# Altium integrated library TMS320F28379DPTPT.IntLib: 1 symbol
Pins are listed as number, name and electrical type; pins without a type are passive.

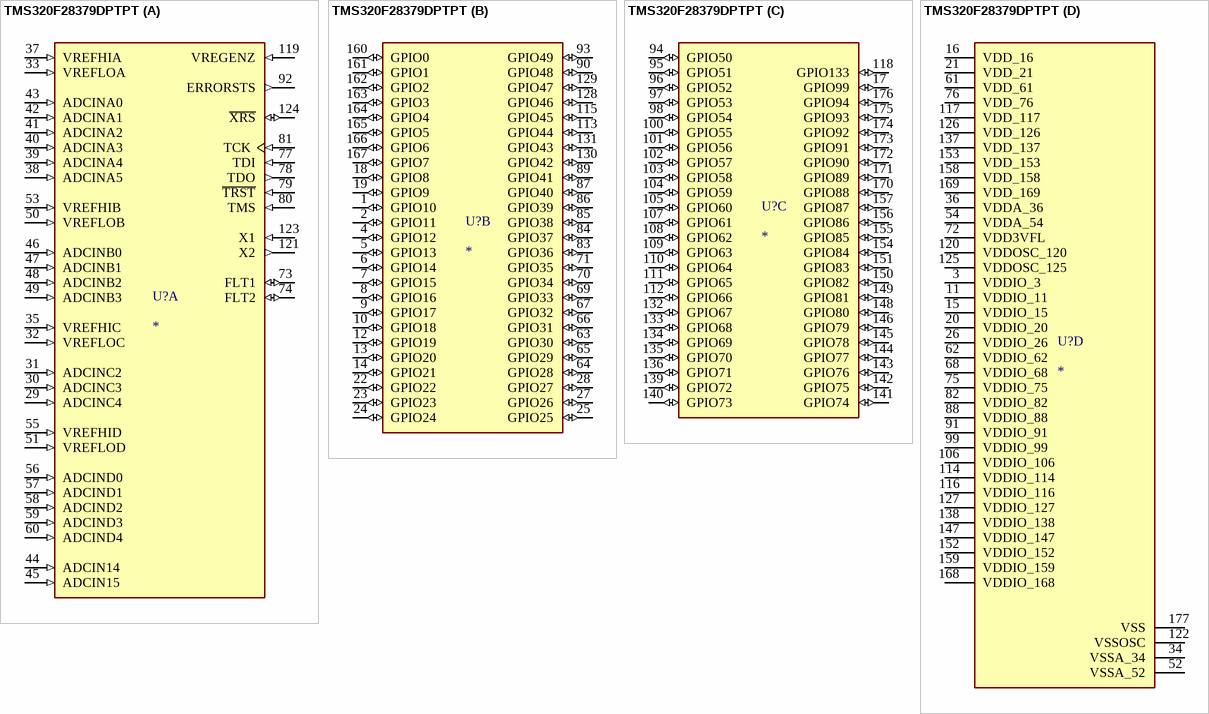
[diagram p0: symbol TMS320F28379DPTPT]

## TMS320F28379DPTPT
designator U?
C2000 32-bit MCU with 800 MIPS, 2xCPU, 2xCLA, FPU, TMU, 1024 KB Flash, CLB, EMIF, 16b ADC 176-HLQFP -40 to 105; MP: TMS320F28379DPTPT; Price: None; Package: None; Availability: Unavailable; Value: *
footprint IC_TMS320F28379DPTPT
part A pins: 29 ADCINC4 (in), 30 ADCINC3 (in), 31 ADCINC2 (in), 32 VREFLOC (in), 33 VREFLOA (in), 35 VREFHIC (in), 37 VREFHIA (in), 38 ADCINA5 (in), 39 ADCINA4 (in), 40 ADCINA3 (in), 41 ADCINA2 (in), 42 ADCINA1 (in), 43 ADCINA0 (in), 44 ADCIN14 (in), 45 ADCIN15 (in), 46 ADCINB0 (in), 47 ADCINB1 (in), 48 ADCINB2 (in), 49 ADCINB3 (in), 50 VREFLOB (in), 51 VREFLOD (in), 53 VREFHIB (in), 55 VREFHID (in), 56 ADCIND0 (in), 57 ADCIND1 (in), 58 ADCIND2 (in), 59 ADCIND3 (in), 60 ADCIND4 (in), 73 FLT1 (io), 74 FLT2 (io), 77 TDI (in), 78 TDO (out), 79 ~{TRST} (in), 80 TMS (in), 81 TCK (in), 92 ERRORSTS (out), 119 VREGENZ (in), 121 X2 (out), 123 X1 (in), 124 ~{XRS} (io)
part B pins: 1 GPIO10 (io), 2 GPIO11 (io), 4 GPIO12 (io), 5 GPIO13 (io), 6 GPIO14 (io), 7 GPIO15 (io), 8 GPIO16 (io), 9 GPIO17 (io), 10 GPIO18 (io), 12 GPIO19 (io), 13 GPIO20 (io), 14 GPIO21 (io), 18 GPIO8 (io), 19 GPIO9 (io), 22 GPIO22 (io), 23 GPIO23 (io), 24 GPIO24 (io), 25 GPIO25 (io), 27 GPIO26 (io), 28 GPIO27 (io), 63 GPIO30 (io), 64 GPIO28 (io), 65 GPIO29 (io), 66 GPIO31 (io), 67 GPIO32 (io), 69 GPIO33 (io), 70 GPIO34 (io), 71 GPIO35 (io), 83 GPIO36 (io), 84 GPIO37 (io), 85 GPIO38 (io), 86 GPIO39 (io), 87 GPIO40 (io), 89 GPIO41 (io), 90 GPIO48 (io), 93 GPIO49 (io), 113 GPIO44 (io), 115 GPIO45 (io), 128 GPIO46 (io), 129 GPIO47 (io), 130 GPIO42 (io), 131 GPIO43 (io), 160 GPIO0 (io), 161 GPIO1 (io), 162 GPIO2 (io), 163 GPIO3 (io), 164 GPIO4 (io), 165 GPIO5 (io), 166 GPIO6 (io), 167 GPIO7 (io)
part C pins: 17 GPIO99 (io), 94 GPIO50 (io), 95 GPIO51 (io), 96 GPIO52 (io), 97 GPIO53 (io), 98 GPIO54 (io), 100 GPIO55 (io), 101 GPIO56 (io), 102 GPIO57 (io), 103 GPIO58 (io), 104 GPIO59 (io), 105 GPIO60 (io), 107 GPIO61 (io), 108 GPIO62 (io), 109 GPIO63 (io), 110 GPIO64 (io), 111 GPIO65 (io), 112 GPIO66 (io), 118 GPIO133 (io), 132 GPIO67 (io), 133 GPIO68 (io), 134 GPIO69 (io), 135 GPIO70 (io), 136 GPIO71 (io), 139 GPIO72 (io), 140 GPIO73 (io), 141 GPIO74 (io), 142 GPIO75 (io), 143 GPIO76 (io), 144 GPIO77 (io), 145 GPIO78 (io), 146 GPIO79 (io), 148 GPIO80 (io), 149 GPIO81 (io), 150 GPIO82 (io), 151 GPIO83 (io), 154 GPIO84 (io), 155 GPIO85 (io), 156 GPIO86 (io), 157 GPIO87 (io), 170 GPIO88 (io), 171 GPIO89 (io), 172 GPIO90 (io), 173 GPIO91 (io), 174 GPIO92 (io), 175 GPIO93 (io), 176 GPIO94 (io)
part D pins: 3 VDDIO_3 (power), 11 VDDIO_11 (power), 15 VDDIO_15 (power), 16 VDD_16 (power), 20 VDDIO_20 (power), 21 VDD_21 (power), 26 VDDIO_26 (power), 34 VSSA_34 (power), 36 VDDA_36 (power), 52 VSSA_52 (power), 54 VDDA_54 (power), 61 VDD_61 (power), 62 VDDIO_62 (power), 68 VDDIO_68 (power), 72 VDD3VFL (power), 75 VDDIO_75 (power), 76 VDD_76 (power), 82 VDDIO_82 (power), 88 VDDIO_88 (power), 91 VDDIO_91 (power), 99 VDDIO_99 (power), 106 VDDIO_106 (power), 114 VDDIO_114 (power), 116 VDDIO_116 (power), 117 VDD_117 (power), 120 VDDOSC_120 (power), 122 VSSOSC (power), 125 VDDOSC_125 (power), 126 VDD_126 (power), 127 VDDIO_127 (power), 137 VDD_137 (power), 138 VDDIO_138 (power), 147 VDDIO_147 (power), 152 VDDIO_152 (power), 153 VDD_153 (power), 158 VDD_158 (power), 159 VDDIO_159 (power), 168 VDDIO_168 (power), 169 VDD_169 (power), 177 VSS (power)